# EAGLE library part EXB-38V103JV (library RESISTORS)
10000 10k 1206 0.0625W 1% 4x RESISTOR ARRAY
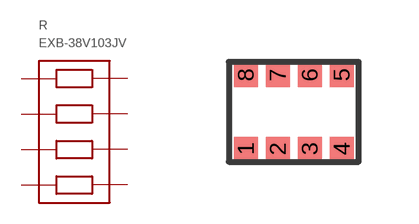
[diagram p1: symbol with the pads of 1206_ARRAY; footprint 1206_ARRAY]

Designator prefix R

## EXB-38V103JV (DIGIKEY: Y9103CT-ND; HEIGHT: 0.4; PRICE_PER: 0.07; VALUE: 10k)  [1206_ARRAY]
1  1
2  2
3  3
4  4
5  5
6  6
7  7
8  8

## Footprint 1206_ARRAY (pad centres in mm)
smd 0.6 x 0.6: 1 -1.2,-0.925; 2 -0.4,-0.925; 3 0.4,-0.925; 4 1.2,-0.925; 5 1.2,0.925; 6 0.4,0.925; 7 -0.4,0.925; 8 -1.2,0.925